# Altium schematic symbol library Solder bridge.SchLib: 1 symbol
Pins are listed as number, name and electrical type; pins without a type are passive.

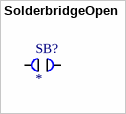
[diagram p0: symbol SolderbridgeOpen]

## SolderbridgeOpen
designator SB?
footprint PCBComponent_1
pins: 0, 1